# Altium schematic symbol library SCH - CHARGER - MICROCHIP MCP73834.SCHLIB: 1 symbol
Pins are listed as number, name and electrical type; pins without a type are passive.

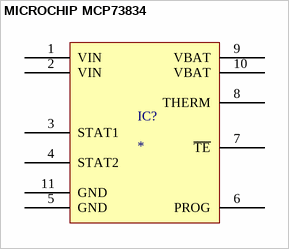
[diagram p0: symbol MICROCHIP MCP73834]

## MICROCHIP MCP73834
designator IC?
pins: 1 VIN, 2 VIN, 3 STAT1, 4 STAT2, 5 GND, 6 PROG, 7 ~{TE}, 8 THERM, 9 VBAT, 10 VBAT, 11 GND